# EAGLE library part BMD-200 (library rigado_BMD-200)
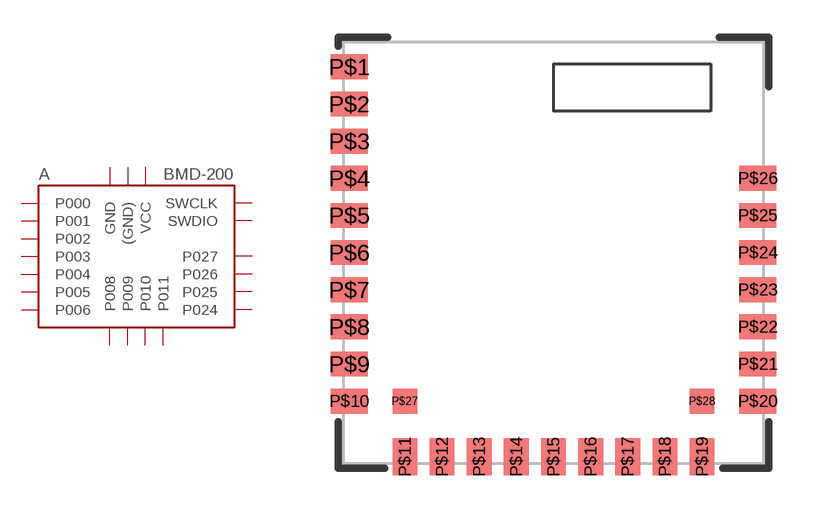
[diagram p0: symbol with the pads of BMD-200; footprint BMD-200]

Designator prefix A

## BMD-200  [BMD-200]
P$1  GND
P$2  GND
P$3  GND
P$4  GND
P$5  P024
P$6  P025
P$7  GND
P$8  P026
P$9  P027
P$10  GND
P$11  P000
P$12  P001
P$13  P002
P$14  P003
P$15  P004
P$16  P005
P$17  P006
P$18  VCC
P$19  GND
P$20  P008
P$21  P009
P$22  P010
P$23  P011
P$24  SWDIO
P$25  SWCLK
P$26  GND
P$27  (GND)
P$28  (GND)

## Footprint BMD-200 (pad centres in mm)
smd 1.5 x 1: P$1 -8.25,7.5; P$2 -8.25,6; P$3 -8.25,4.5; P$4 -8.25,3; P$5 -8.25,1.5; P$6 -8.25,0; P$7 -8.25,-1.5; P$8 -8.25,-3; P$9 -8.25,-4.5; P$10 -8.25,-6; P$20 8.25,-6; P$21 8.25,-4.5; P$22 8.25,-3; P$23 8.25,-1.5; P$24 8.25,0; P$25 8.25,1.5; P$26 8.25,3
smd 1 x 1.5: P$11 -6,-8.25; P$12 -4.5,-8.25; P$13 -3,-8.25; P$14 -1.5,-8.25; P$15 0,-8.25; P$16 1.5,-8.25; P$17 3,-8.25; P$18 4.5,-8.25; P$19 6,-8.25
smd 1 x 1: P$27 -6,-6; P$28 6,-6